# EAGLE library part TPS61240 (library sonder_b)
TI 3.5MHz Step-Up Converter 2.3-5.5V -> 5V - Internal Softstart, 250ms typical Start-Up time - Output current up to 450mA - Three Surface-Mount External Components Required (One MLCC Inductor, Two Ceramic Capacitors) http://focus.ti.com/lit/ds/symlink/tps61240.pdf
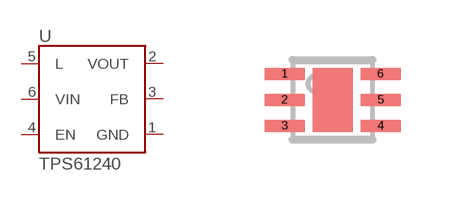
[diagram p0: symbol with the pads of S-PWSON-N6; footprint S-PWSON-N6]

Designator prefix -

## TPS61240QFN_LONG  [S-PWSON-N6]
1  GND
2  VOUT
3  FB
4  EN
5  L
6  VIN

## Footprint S-PWSON-N6 (pad centres in mm)
6 pin Package mit PowerPad für Spannungswandler
smd 1 x 0.3: 1 -1.2,0.65; 2 -1.2,0; 3 -1.2,-0.65; 4 1.2,-0.65; 5 1.2,0; 6 1.2,0.65